# Altium schematic symbol library Pad.SchLib: 6 symbols
Pins are listed as number, name and electrical type; pins without a type are passive.

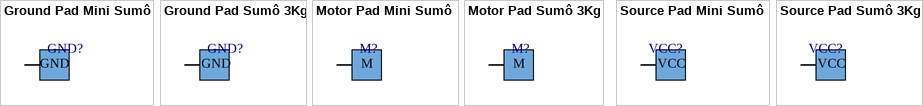
[diagram p0: symbols Ground Pad Mini Sumô to Source Pad Sumô 3Kg]

## Ground Pad Mini Sumô
designator GND?, comment Ground Pad  (value not drawn)
GND PAD MINI SUMÔ; Cable AWG: 20 / 18 (AWG); Recomended Category: Mini Sumô; Size: 3.5 x 3.5 (mm); Library Ref: Pads
pins: A GND

## Ground Pad Sumô 3Kg
designator GND?, comment Ground Pad  (value not drawn)
GND PAD SUMÔ 3KG; Cable AWG: 12 (AWG); Recomended Category: Sumô 3Kg; Size: 5 x 2 (mm); Library Ref: Pads
pins: A GND

## Motor Pad Mini Sumô
designator M?, comment Motor Pad  (value not drawn)
MOTOR PAD MINI SUMÔ; Cable AWG: 20 / 18 (AWG); Recomended Category: Mini Sumô; Size: 3.5 x 3.5 (mm); Library Ref: Pads
pins: M

## Motor Pad Sumô 3Kg
designator M?, comment Motor Pad  (value not drawn)
MOTOR PAD SUMÔ 3KG; Cable AWG: 12 (AWG); Recomended Category: Sumô 3Kg; Size: 5 x 2 (mm); Library Ref: Pads
pins: M

## Source Pad Mini Sumô
designator VCC?, comment Source Pad  (value not drawn)
VCC PAD MINI SUMÔ; Cable AWG: 20 / 18 (AWG); Recomended Category: Mini Sumô; Size: 3.5 x 3.5 (mm); Library Ref: Pads
pins: A VCC

## Source Pad Sumô 3Kg
designator VCC?, comment Source Pad  (value not drawn)
VCC PAD SUMÔ 3KG; Cable AWG: 12 (AWG); Recomended Category: Sumô 3Kg; Size: 5 x 2 (mm); Library Ref: Pads
pins: A VCC